# EAGLE library part 7-1440009-5 (library Relays)
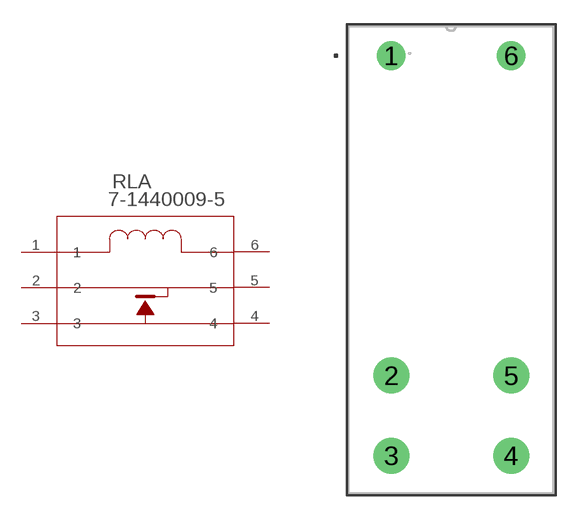
[diagram p57: symbol with the pads of RELAY6_7-1440009-5; footprint RELAY6_7-1440009-5]

Designator prefix RLA

## 7-1440009-5 (BUILT_BY: EMA_Justin; CATEGORY: Power Relays; CONTACT_ARRANGEMENT: 1 Form A (NO); COPYRIGHT: Copyright (C) 2016 Accelerated Designs. All rights reserved; DESCRIPTION: OZ-SS-103LM1,200; MANUFACTURER_PART_NUMBER: 7-1440009-5; MAXIMUM_SWITCHING_CURRENT: -; MAXIMUM_SWITCHING_VOLTAGE: -; PART_STATUS: active; PRODUCT_TYPE: -; RELAY_TYPE: -; SERIES: OEG Power PCB Relay OZ/OZT; TE_PART_NUMBER: OZ-SS-103LM1,200 (7-1440009-5); VENDOR: TE Connectivity)  [RELAY6_7-1440009-5]
1  1  pas
2  2  pas
3  3  pas
4  4  pas
5  5  pas
6  6  pas

## Footprint RELAY6_7-1440009-5 (pad centres in mm)
drill 1.194 pad 1.702: 1 -7.493,25.502; 6 0,25.502
drill 1.499 pad 2.007: 2 -7.493,5.512; 3 -7.493,0.508; 4 0,0.508; 5 0,5.512